# Altium schematic symbol library MCU_Microchip_SAMV.SchLib: 3 symbols
Pins are listed as number, name and electrical type; pins without a type are passive.

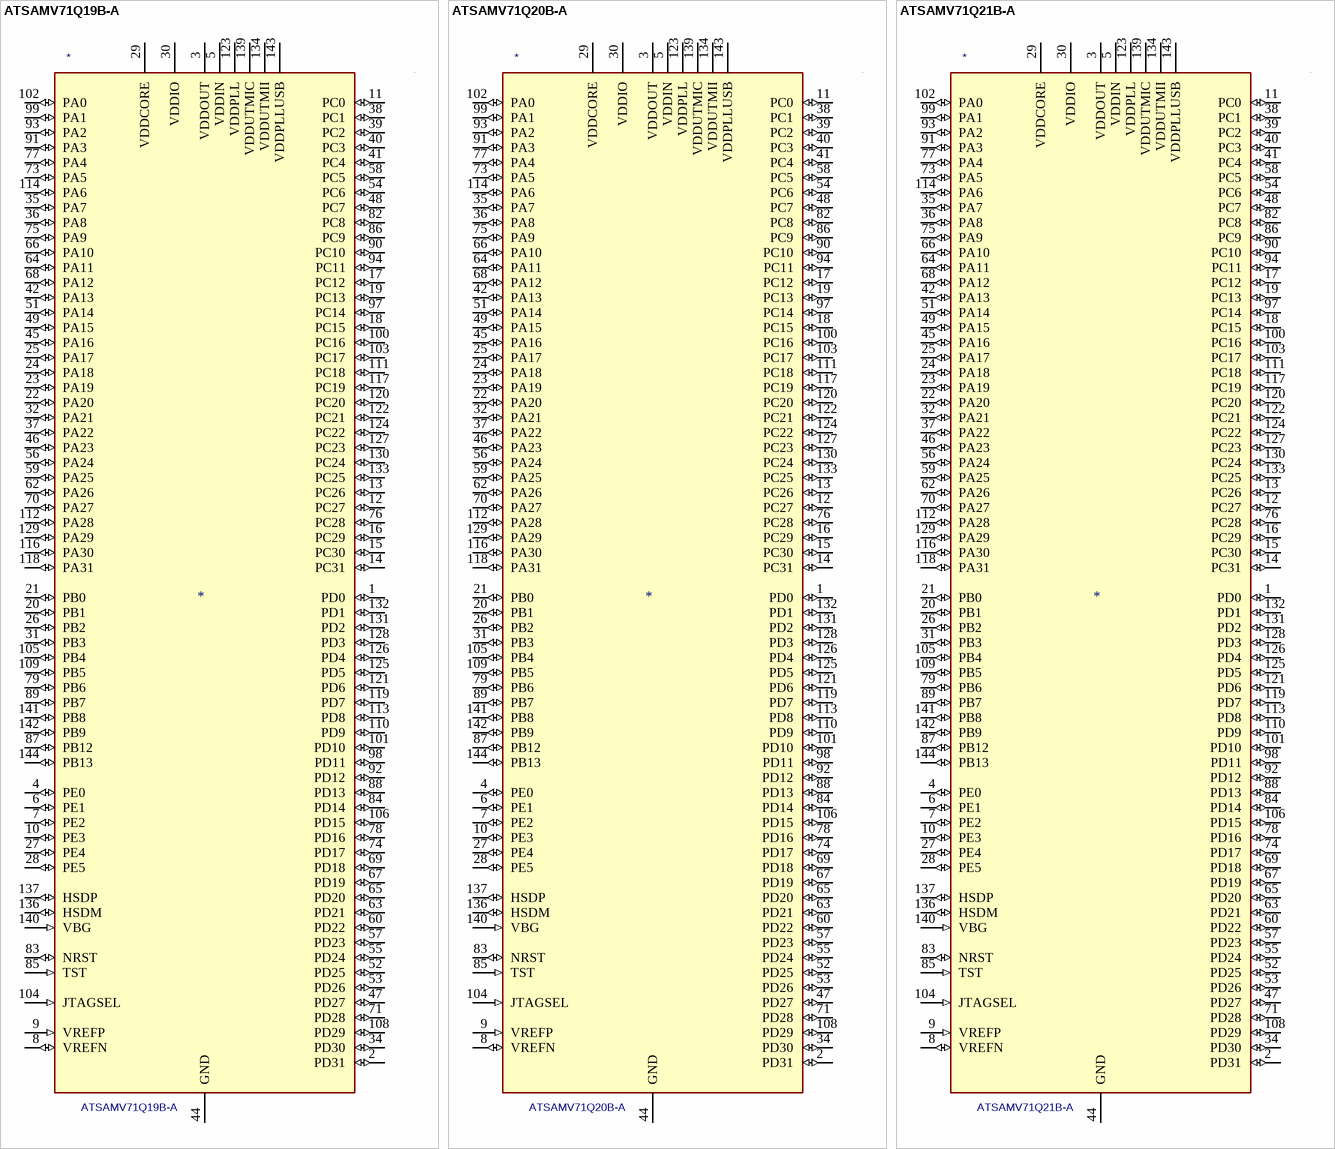
[diagram p0: symbols ATSAMV71Q19B-A to ATSAMV71Q21B-A]

## ATSAMV71Q19B-A
designator *  value ATSAMV71Q19B-A
ki_keywords: 32-bit ARM Cortex-M7 MCU Microcontroller; ki_description: SAM V71 Microchip SMART ARM Cortex-M7-based MCU, 512K Flash, 256K SRAM, LQFP-144; ki_fp_filters: LQFP*20x20mm*P0.5mm*; Footprint: Package_QFP:LQFP-144_20x20mm_P0.5mm; Supplier: http://ww1.microchip.com/downloads/en/DeviceDoc/SAM-E70-S70-V70-V71-Family-Data-Sheet-DS60001527D.pdf
footprint LQFP-144_20x20mm_P0.5mm
pins: 1 PD0 (io), 2 PD31 (io), 3 VDDOUT (power), 4 PE0 (io), 5 VDDIN (power), 6 PE1 (io), 7 PE2 (io), 8 VREFN (io), 9 VREFP (in), 10 PE3 (io), 11 PC0 (io), 12 PC27 (io), 13 PC26 (io), 14 PC31 (io), 15 PC30 (io), 16 PC29 (io), 17 PC12 (io), 18 PC15 (io), 19 PC13 (io), 20 PB1 (io), 21 PB0 (io), 22 PA20 (io), 23 PA19 (io), 24 PA18 (io), 25 PA17 (io), 26 PB2 (io), 27 PE4 (io), 28 PE5 (io), 29 VDDCORE (power), 30 VDDIO (power), 31 PB3 (io), 32 PA21 (io), 33 VDDCORE hidden, 34 PD30 (io), 35 PA7 (io), 36 PA8 (io), 37 PA22 (io), 38 PC1 (io), 39 PC2 (io), 40 PC3 (io), 41 PC4 (io), 42 PA13 (io), 43 VDDIO hidden, 44 GND (power), 45 PA16 (io), 46 PA23 (io), 47 PD27 (io), 48 PC7 (io), 49 PA15 (io), 50 VDDCORE hidden, 51 PA14 (io), 52 PD25 (io), 53 PD26 (io), 54 PC6 (io), 55 PD24 (io), 56 PA24 (io), 57 PD23 (io), 58 PC5 (io), 59 PA25 (io), 60 PD22 (io), 61 GND hidden, 62 PA26 (io), 63 PD21 (io), 64 PA11 (io), 65 PD20 (io), 66 PA10 (io), 67 PD19 (io), 68 PA12 (io), 69 PD18 (io), 70 PA27 (io), 71 PD28 (io), 72 VDDIO hidden, 73 PA5 (io), 74 PD17 (io), 75 PA9 (io), 76 PC28 (io), 77 PA4 (io), 78 PD16 (io), 79 PB6 (io), 80 VDDIO hidden, 81 VDDCORE hidden, 82 PC8 (io), 83 NRST (io), 84 PD14 (io), 85 TST (in), 86 PC9 (io), 87 PB12 (io), 88 PD13 (io), 89 PB7 (io), 90 PC10 (io), 91 PA3 (io), 92 PD12 (io), 93 PA2 (io), 94 PC11 (io), 95 GND hidden, 96 VDDIO hidden, 97 PC14 (io), 98 PD11 (io), 99 PA1 (io), 100 PC16 (io), 101 PD10 (io), 102 PA0 (io), 103 PC17 (io), 104 JTAGSEL (in), 105 PB4 (io), 106 PD15 (io), 107 VDDCORE hidden, 108 PD29 (io), 109 PB5 (io), 110 PD9 (io), 111 PC18 (io), 112 PA28 (io), 113 PD8 (io), 114 PA6 (io), 115 GND hidden, 116 PA30 (io), 117 PC19 (io), 118 PA31 (io), 119 PD7 (io), 120 PC20 (io), 121 PD6 (io), 122 PC21 (io), 123 VDDPLL (power), 124 PC22 (io), 125 PD5 (io), 126 PD4 (io), 127 PC23 (io), 128 PD3 (io), 129 PA29 (io), 130 PC24 (io), 131 PD2 (io), 132 PD1 (io), 133 PC25 (io), 134 VDDUTMII (power), 135 GND hidden, 136 HSDM (io), 137 HSDP (io), 138 GND hidden, 139 VDDUTMIC (power), 140 VBG (in), 141 PB8 (io), 142 PB9 (io), 143 VDDPLLUSB (power), 144 PB13 (io)

## ATSAMV71Q20B-A
designator *  value ATSAMV71Q20B-A
ki_keywords: 32-bit ARM Cortex-M7 MCU Microcontroller; ki_description: SAM V71 Microchip SMART ARM Cortex-M7-based MCU, 1024K Flash, 384K SRAM, LQFP-144; ki_fp_filters: LQFP*20x20mm*P0.5mm*; Footprint: Package_QFP:LQFP-144_20x20mm_P0.5mm; Supplier: http://ww1.microchip.com/downloads/en/DeviceDoc/SAM-E70-S70-V70-V71-Family-Data-Sheet-DS60001527D.pdf
footprint LQFP-144_20x20mm_P0.5mm
pins: 1 PD0 (io), 2 PD31 (io), 3 VDDOUT (power), 4 PE0 (io), 5 VDDIN (power), 6 PE1 (io), 7 PE2 (io), 8 VREFN (io), 9 VREFP (in), 10 PE3 (io), 11 PC0 (io), 12 PC27 (io), 13 PC26 (io), 14 PC31 (io), 15 PC30 (io), 16 PC29 (io), 17 PC12 (io), 18 PC15 (io), 19 PC13 (io), 20 PB1 (io), 21 PB0 (io), 22 PA20 (io), 23 PA19 (io), 24 PA18 (io), 25 PA17 (io), 26 PB2 (io), 27 PE4 (io), 28 PE5 (io), 29 VDDCORE (power), 30 VDDIO (power), 31 PB3 (io), 32 PA21 (io), 33 VDDCORE hidden, 34 PD30 (io), 35 PA7 (io), 36 PA8 (io), 37 PA22 (io), 38 PC1 (io), 39 PC2 (io), 40 PC3 (io), 41 PC4 (io), 42 PA13 (io), 43 VDDIO hidden, 44 GND (power), 45 PA16 (io), 46 PA23 (io), 47 PD27 (io), 48 PC7 (io), 49 PA15 (io), 50 VDDCORE hidden, 51 PA14 (io), 52 PD25 (io), 53 PD26 (io), 54 PC6 (io), 55 PD24 (io), 56 PA24 (io), 57 PD23 (io), 58 PC5 (io), 59 PA25 (io), 60 PD22 (io), 61 GND hidden, 62 PA26 (io), 63 PD21 (io), 64 PA11 (io), 65 PD20 (io), 66 PA10 (io), 67 PD19 (io), 68 PA12 (io), 69 PD18 (io), 70 PA27 (io), 71 PD28 (io), 72 VDDIO hidden, 73 PA5 (io), 74 PD17 (io), 75 PA9 (io), 76 PC28 (io), 77 PA4 (io), 78 PD16 (io), 79 PB6 (io), 80 VDDIO hidden, 81 VDDCORE hidden, 82 PC8 (io), 83 NRST (io), 84 PD14 (io), 85 TST (in), 86 PC9 (io), 87 PB12 (io), 88 PD13 (io), 89 PB7 (io), 90 PC10 (io), 91 PA3 (io), 92 PD12 (io), 93 PA2 (io), 94 PC11 (io), 95 GND hidden, 96 VDDIO hidden, 97 PC14 (io), 98 PD11 (io), 99 PA1 (io), 100 PC16 (io), 101 PD10 (io), 102 PA0 (io), 103 PC17 (io), 104 JTAGSEL (in), 105 PB4 (io), 106 PD15 (io), 107 VDDCORE hidden, 108 PD29 (io), 109 PB5 (io), 110 PD9 (io), 111 PC18 (io), 112 PA28 (io), 113 PD8 (io), 114 PA6 (io), 115 GND hidden, 116 PA30 (io), 117 PC19 (io), 118 PA31 (io), 119 PD7 (io), 120 PC20 (io), 121 PD6 (io), 122 PC21 (io), 123 VDDPLL (power), 124 PC22 (io), 125 PD5 (io), 126 PD4 (io), 127 PC23 (io), 128 PD3 (io), 129 PA29 (io), 130 PC24 (io), 131 PD2 (io), 132 PD1 (io), 133 PC25 (io), 134 VDDUTMII (power), 135 GND hidden, 136 HSDM (io), 137 HSDP (io), 138 GND hidden, 139 VDDUTMIC (power), 140 VBG (in), 141 PB8 (io), 142 PB9 (io), 143 VDDPLLUSB (power), 144 PB13 (io)

## ATSAMV71Q21B-A
designator *  value ATSAMV71Q21B-A
ki_keywords: 32-bit ARM Cortex-M7 MCU Microcontroller; ki_description: SAM V71 Microchip SMART ARM Cortex-M7-based MCU, 2048K Flash, 384K SRAM, LQFP-144; ki_fp_filters: LQFP*20x20mm*P0.5mm*; Footprint: Package_QFP:LQFP-144_20x20mm_P0.5mm; Supplier: http://ww1.microchip.com/downloads/en/DeviceDoc/SAM-E70-S70-V70-V71-Family-Data-Sheet-DS60001527D.pdf
footprint LQFP-144_20x20mm_P0.5mm
pins: 1 PD0 (io), 2 PD31 (io), 3 VDDOUT (power), 4 PE0 (io), 5 VDDIN (power), 6 PE1 (io), 7 PE2 (io), 8 VREFN (io), 9 VREFP (in), 10 PE3 (io), 11 PC0 (io), 12 PC27 (io), 13 PC26 (io), 14 PC31 (io), 15 PC30 (io), 16 PC29 (io), 17 PC12 (io), 18 PC15 (io), 19 PC13 (io), 20 PB1 (io), 21 PB0 (io), 22 PA20 (io), 23 PA19 (io), 24 PA18 (io), 25 PA17 (io), 26 PB2 (io), 27 PE4 (io), 28 PE5 (io), 29 VDDCORE (power), 30 VDDIO (power), 31 PB3 (io), 32 PA21 (io), 33 VDDCORE hidden, 34 PD30 (io), 35 PA7 (io), 36 PA8 (io), 37 PA22 (io), 38 PC1 (io), 39 PC2 (io), 40 PC3 (io), 41 PC4 (io), 42 PA13 (io), 43 VDDIO hidden, 44 GND (power), 45 PA16 (io), 46 PA23 (io), 47 PD27 (io), 48 PC7 (io), 49 PA15 (io), 50 VDDCORE hidden, 51 PA14 (io), 52 PD25 (io), 53 PD26 (io), 54 PC6 (io), 55 PD24 (io), 56 PA24 (io), 57 PD23 (io), 58 PC5 (io), 59 PA25 (io), 60 PD22 (io), 61 GND hidden, 62 PA26 (io), 63 PD21 (io), 64 PA11 (io), 65 PD20 (io), 66 PA10 (io), 67 PD19 (io), 68 PA12 (io), 69 PD18 (io), 70 PA27 (io), 71 PD28 (io), 72 VDDIO hidden, 73 PA5 (io), 74 PD17 (io), 75 PA9 (io), 76 PC28 (io), 77 PA4 (io), 78 PD16 (io), 79 PB6 (io), 80 VDDIO hidden, 81 VDDCORE hidden, 82 PC8 (io), 83 NRST (io), 84 PD14 (io), 85 TST (in), 86 PC9 (io), 87 PB12 (io), 88 PD13 (io), 89 PB7 (io), 90 PC10 (io), 91 PA3 (io), 92 PD12 (io), 93 PA2 (io), 94 PC11 (io), 95 GND hidden, 96 VDDIO hidden, 97 PC14 (io), 98 PD11 (io), 99 PA1 (io), 100 PC16 (io), 101 PD10 (io), 102 PA0 (io), 103 PC17 (io), 104 JTAGSEL (in), 105 PB4 (io), 106 PD15 (io), 107 VDDCORE hidden, 108 PD29 (io), 109 PB5 (io), 110 PD9 (io), 111 PC18 (io), 112 PA28 (io), 113 PD8 (io), 114 PA6 (io), 115 GND hidden, 116 PA30 (io), 117 PC19 (io), 118 PA31 (io), 119 PD7 (io), 120 PC20 (io), 121 PD6 (io), 122 PC21 (io), 123 VDDPLL (power), 124 PC22 (io), 125 PD5 (io), 126 PD4 (io), 127 PC23 (io), 128 PD3 (io), 129 PA29 (io), 130 PC24 (io), 131 PD2 (io), 132 PD1 (io), 133 PC25 (io), 134 VDDUTMII (power), 135 GND hidden, 136 HSDM (io), 137 HSDP (io), 138 GND hidden, 139 VDDUTMIC (power), 140 VBG (in), 141 PB8 (io), 142 PB9 (io), 143 VDDPLLUSB (power), 144 PB13 (io)